# Altium integrated library Xilinx XC17S00A.IntLib: 38 symbols
Pins are listed as number, name and electrical type; pins without a type are passive.

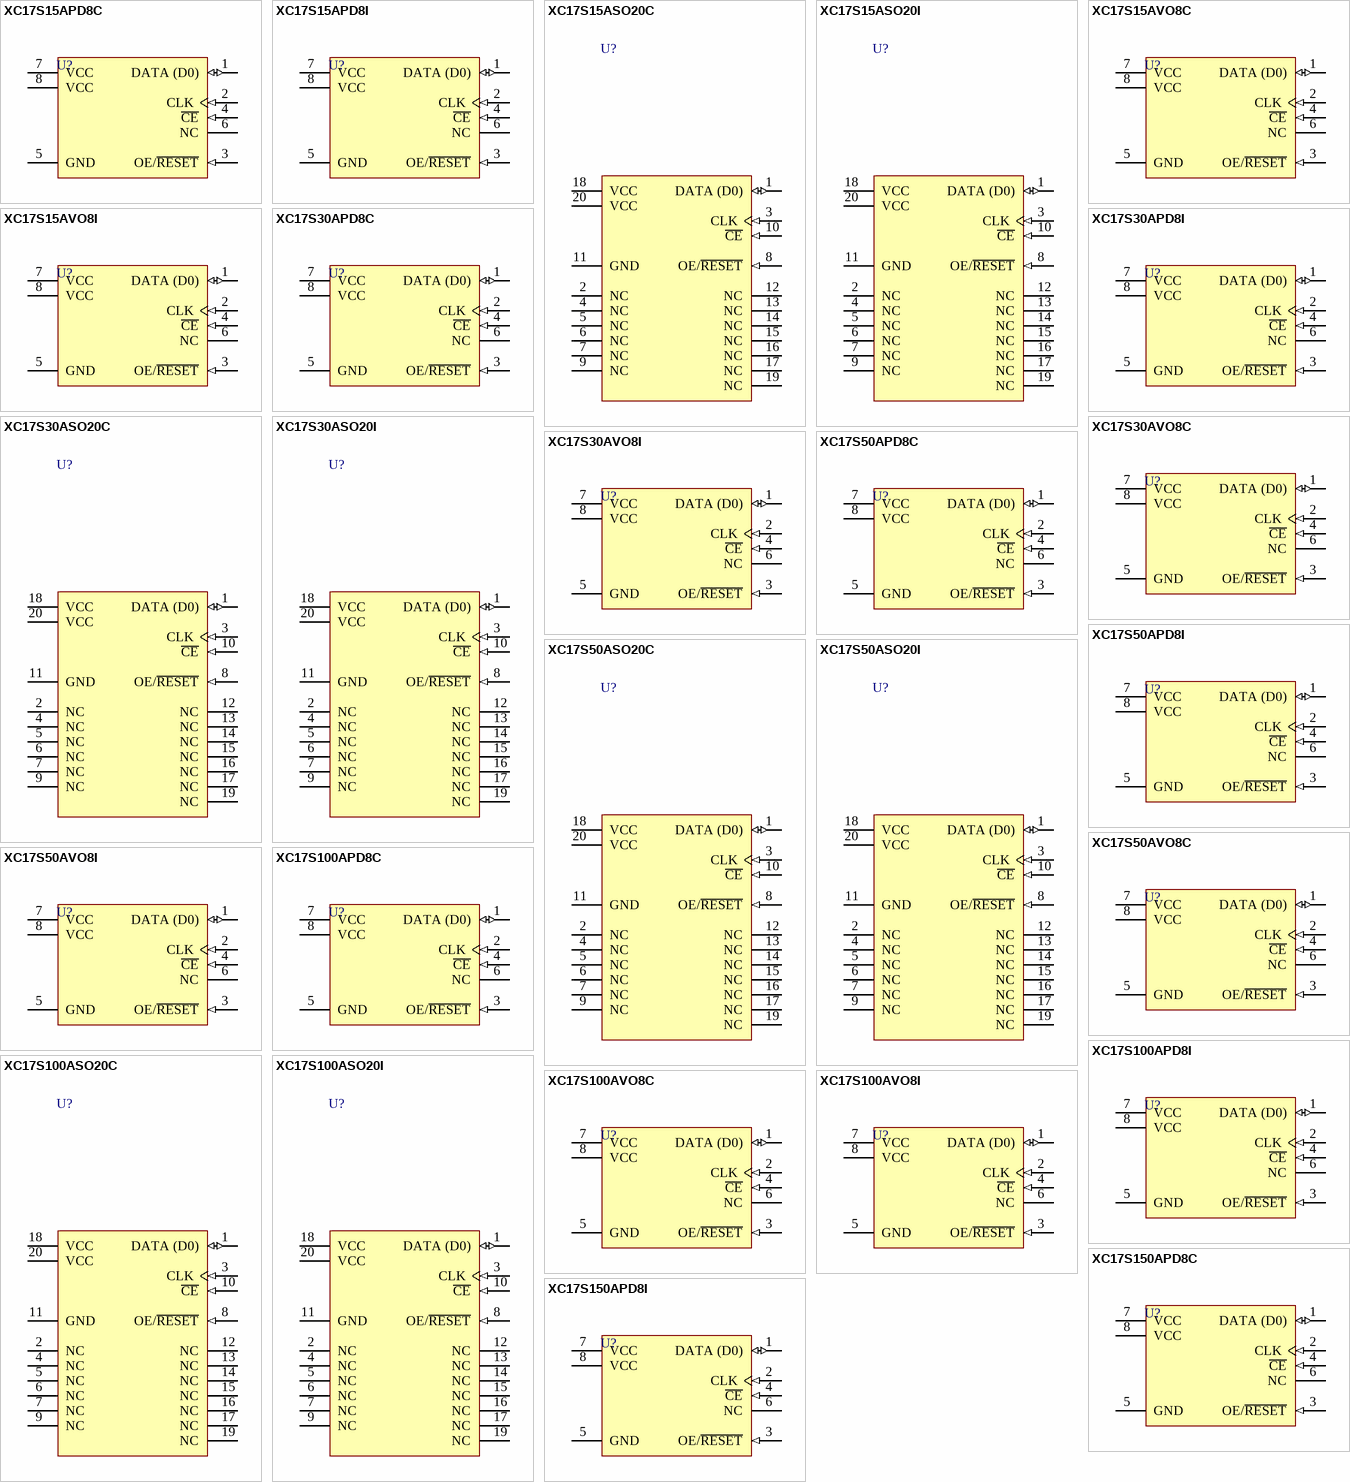
[diagram p0: symbols XC17S15APD8C to XC17S150APD8I]

## XC17S15APD8C
designator U?
XC17S00A Series, One-Time Programmable Configuration 3.3V PROM, 8-Pin PDIP, XC2S15 Compatible, Commercial Grade; PackageDocument: rev1.1, Apr-2001; Published: 17-Dec-2003; DatasheetDocument: ver1.8, Nov-2002; PackageReference: PD8; Publisher: Altium Limited; Code_JEDEC: MS-001-BA
footprint PD8 (8-Pin Plastic DIP (PD8))
pins: 1 DATA (D0) (io) "Data Output.", 2 CLK (in) "Clock input for internal address counter.", 3 OE/~{RESET} (in) "DATA Output Enable/Address Counter Reset", 4 ~{CE} (in) "Reset internal Address Counter, Disable DATA Output, Force device into Standby Mode.", 5 GND (power) "Ground.", 6 NC "No Connection.", 7 VCC (power) "Positive Supply.", 8 VCC (power) "Positive Supply."

## XC17S15APD8I
designator U?
XC17S00A Series, One-Time Programmable Configuration 3.3V PROM, 8-Pin PDIP, XC2S15 Compatible, Industrial Grade; PackageDocument: rev1.1, Apr-2001; Published: 17-Dec-2003; DatasheetDocument: ver1.8, Nov-2002; PackageReference: PD8; Publisher: Altium Limited; Code_JEDEC: MS-001-BA
footprint PD8 (8-Pin Plastic DIP (PD8))
pins: 1 DATA (D0) (io) "Data Output.", 2 CLK (in) "Clock input for internal address counter.", 3 OE/~{RESET} (in) "DATA Output Enable/Address Counter Reset", 4 ~{CE} (in) "Reset internal Address Counter, Disable DATA Output, Force device into Standby Mode.", 5 GND (power) "Ground.", 6 NC "No Connection.", 7 VCC (power) "Positive Supply.", 8 VCC (power) "Positive Supply."

## XC17S15ASO20C
designator U?
XC17S00A Series, One-Time Programmable Configuration 3.3V PROM, 20-Pin SOIC, XC2S15 Compatible, Commercial Grade; PackageDocument: ver1.0, Jun-2000; Published: 17-Dec-2003; DatasheetDocument: ver1.8, Nov-2002; PackageReference: SO20; Publisher: Altium Limited; Code_JEDEC: MS-013-AC
footprint SO20 (20-Pin Small-Outline Package (SO20))
pins: 1 DATA (D0) (io) "Data Output.", 2 NC "No Connection.", 3 CLK (in) "Clock input for internal address counter.", 4 NC "No Connection.", 5 NC "No Connection.", 6 NC "No Connection.", 7 NC "No Connection.", 8 OE/~{RESET} (in) "DATA Output Enable/Address Counter Reset", 9 NC "No Connection.", 10 ~{CE} (in) "Reset internal Address Counter, Disable DATA Output, Force device into Standby Mode.", 11 GND (power) "Ground.", 12 NC "No Connection.", 13 NC "No Connection.", 14 NC "No Connection.", 15 NC "No Connection.", 16 NC "No Connection.", 17 NC "No Connection.", 18 VCC (power) "Positive Supply.", 19 NC "No Connection.", 20 VCC (power) "Positive Supply."

## XC17S15ASO20I
designator U?
XC17S00A Series, One-Time Programmable Configuration 3.3V PROM, 20-Pin SOIC, XC2S15 Compatible, Industrial Grade; PackageDocument: ver1.0, Jun-2000; Published: 17-Dec-2003; DatasheetDocument: ver1.8, Nov-2002; PackageReference: SO20; Publisher: Altium Limited; Code_JEDEC: MS-013-AC
footprint SO20 (20-Pin Small-Outline Package (SO20))
pins: 1 DATA (D0) (io) "Data Output.", 2 NC "No Connection.", 3 CLK (in) "Clock input for internal address counter.", 4 NC "No Connection.", 5 NC "No Connection.", 6 NC "No Connection.", 7 NC "No Connection.", 8 OE/~{RESET} (in) "DATA Output Enable/Address Counter Reset", 9 NC "No Connection.", 10 ~{CE} (in) "Reset internal Address Counter, Disable DATA Output, Force device into Standby Mode.", 11 GND (power) "Ground.", 12 NC "No Connection.", 13 NC "No Connection.", 14 NC "No Connection.", 15 NC "No Connection.", 16 NC "No Connection.", 17 NC "No Connection.", 18 VCC (power) "Positive Supply.", 19 NC "No Connection.", 20 VCC (power) "Positive Supply."

## XC17S15AVO8C
designator U?
XC17S00A Series, One-Time Programmable Configuration 3.3V PROM, 8-Pin TSOP, XC2S15 Compatible, Commercial Grade; PackageDocument: ver1.1, Apr-2001; Published: 17-Dec-2003; DatasheetDocument: ver1.8, Nov-2002; PackageReference: VO8; Publisher: Altium Limited
footprint VO8 (8-Pin Thin Small-Outline Package (VO8))
pins: 1 DATA (D0) (io) "Data Output.", 2 CLK (in) "Clock input for internal address counter.", 3 OE/~{RESET} (in) "DATA Output Enable/Address Counter Reset", 4 ~{CE} (in) "Reset internal Address Counter, Disable DATA Output, Force device into Standby Mode.", 5 GND (power) "Ground.", 6 NC "No Connection.", 7 VCC (power) "Positive Supply.", 8 VCC (power) "Positive Supply."

## XC17S15AVO8I
designator U?
XC17S00A Series, One-Time Programmable Configuration 3.3V PROM, 8-Pin TSOP, XC2S15 Compatible, Industrial Grade; PackageDocument: ver1.1, Apr-2001; Published: 17-Dec-2003; DatasheetDocument: ver1.8, Nov-2002; PackageReference: VO8; Publisher: Altium Limited
footprint VO8 (8-Pin Thin Small-Outline Package (VO8))
pins: 1 DATA (D0) (io) "Data Output.", 2 CLK (in) "Clock input for internal address counter.", 3 OE/~{RESET} (in) "DATA Output Enable/Address Counter Reset", 4 ~{CE} (in) "Reset internal Address Counter, Disable DATA Output, Force device into Standby Mode.", 5 GND (power) "Ground.", 6 NC "No Connection.", 7 VCC (power) "Positive Supply.", 8 VCC (power) "Positive Supply."

## XC17S30APD8C
designator U?
XC17S00A Series, One-Time Programmable Configuration 3.3V PROM, 8-Pin PDIP, XC2S30 Compatible, Commercial Grade; PackageDocument: rev1.1, Apr-2001; Published: 17-Dec-2003; DatasheetDocument: ver1.8, Nov-2002; PackageReference: PD8; Publisher: Altium Limited; Code_JEDEC: MS-001-BA
footprint PD8 (8-Pin Plastic DIP (PD8))
pins: 1 DATA (D0) (io) "Data Output.", 2 CLK (in) "Clock input for internal address counter.", 3 OE/~{RESET} (in) "DATA Output Enable/Address Counter Reset", 4 ~{CE} (in) "Reset internal Address Counter, Disable DATA Output, Force device into Standby Mode.", 5 GND (power) "Ground.", 6 NC "No Connection.", 7 VCC (power) "Positive Supply.", 8 VCC (power) "Positive Supply."

## XC17S30APD8I
designator U?
XC17S00A Series, One-Time Programmable Configuration 3.3V PROM, 8-Pin PDIP, XC2S30 Compatible, Industrial Grade; PackageDocument: rev1.1, Apr-2001; Published: 17-Dec-2003; DatasheetDocument: ver1.8, Nov-2002; PackageReference: PD8; Publisher: Altium Limited; Code_JEDEC: MS-001-BA
footprint PD8 (8-Pin Plastic DIP (PD8))
pins: 1 DATA (D0) (io) "Data Output.", 2 CLK (in) "Clock input for internal address counter.", 3 OE/~{RESET} (in) "DATA Output Enable/Address Counter Reset", 4 ~{CE} (in) "Reset internal Address Counter, Disable DATA Output, Force device into Standby Mode.", 5 GND (power) "Ground.", 6 NC "No Connection.", 7 VCC (power) "Positive Supply.", 8 VCC (power) "Positive Supply."

## XC17S30ASO20C
designator U?
XC17S00A Series, One-Time Programmable Configuration 3.3V PROM, 20-Pin SOIC, XC2S30 Compatible, Commercial Grade; PackageDocument: ver1.0, Jun-2000; Published: 17-Dec-2003; DatasheetDocument: ver1.8, Nov-2002; PackageReference: SO20; Publisher: Altium Limited; Code_JEDEC: MS-013-AC
footprint SO20 (20-Pin Small-Outline Package (SO20))
pins: 1 DATA (D0) (io) "Data Output.", 2 NC "No Connection.", 3 CLK (in) "Clock input for internal address counter.", 4 NC "No Connection.", 5 NC "No Connection.", 6 NC "No Connection.", 7 NC "No Connection.", 8 OE/~{RESET} (in) "DATA Output Enable/Address Counter Reset", 9 NC "No Connection.", 10 ~{CE} (in) "Reset internal Address Counter, Disable DATA Output, Force device into Standby Mode.", 11 GND (power) "Ground.", 12 NC "No Connection.", 13 NC "No Connection.", 14 NC "No Connection.", 15 NC "No Connection.", 16 NC "No Connection.", 17 NC "No Connection.", 18 VCC (power) "Positive Supply.", 19 NC "No Connection.", 20 VCC (power) "Positive Supply."

## XC17S30ASO20I
designator U?
XC17S00A Series, One-Time Programmable Configuration 3.3V PROM, 20-Pin SOIC, XC2S30 Compatible, Industrial Grade; PackageDocument: ver1.0, Jun-2000; Published: 17-Dec-2003; DatasheetDocument: ver1.8, Nov-2002; PackageReference: SO20; Publisher: Altium Limited; Code_JEDEC: MS-013-AC
footprint SO20 (20-Pin Small-Outline Package (SO20))
pins: 1 DATA (D0) (io) "Data Output.", 2 NC "No Connection.", 3 CLK (in) "Clock input for internal address counter.", 4 NC "No Connection.", 5 NC "No Connection.", 6 NC "No Connection.", 7 NC "No Connection.", 8 OE/~{RESET} (in) "DATA Output Enable/Address Counter Reset", 9 NC "No Connection.", 10 ~{CE} (in) "Reset internal Address Counter, Disable DATA Output, Force device into Standby Mode.", 11 GND (power) "Ground.", 12 NC "No Connection.", 13 NC "No Connection.", 14 NC "No Connection.", 15 NC "No Connection.", 16 NC "No Connection.", 17 NC "No Connection.", 18 VCC (power) "Positive Supply.", 19 NC "No Connection.", 20 VCC (power) "Positive Supply."

## XC17S30AVO8C
designator U?
XC17S00A Series, One-Time Programmable Configuration 3.3V PROM, 8-Pin TSOP, XC2S30 Compatible, Commercial Grade; PackageDocument: ver1.1, Apr-2001; Published: 17-Dec-2003; DatasheetDocument: ver1.8, Nov-2002; PackageReference: VO8; Publisher: Altium Limited
footprint VO8 (8-Pin Thin Small-Outline Package (VO8))
pins: 1 DATA (D0) (io) "Data Output.", 2 CLK (in) "Clock input for internal address counter.", 3 OE/~{RESET} (in) "DATA Output Enable/Address Counter Reset", 4 ~{CE} (in) "Reset internal Address Counter, Disable DATA Output, Force device into Standby Mode.", 5 GND (power) "Ground.", 6 NC "No Connection.", 7 VCC (power) "Positive Supply.", 8 VCC (power) "Positive Supply."

## XC17S30AVO8I
designator U?
XC17S00A Series, One-Time Programmable Configuration 3.3V PROM, 8-Pin TSOP, XC2S30 Compatible, Industrial Grade; PackageDocument: ver1.1, Apr-2001; Published: 17-Dec-2003; DatasheetDocument: ver1.8, Nov-2002; PackageReference: VO8; Publisher: Altium Limited
footprint VO8 (8-Pin Thin Small-Outline Package (VO8))
pins: 1 DATA (D0) (io) "Data Output.", 2 CLK (in) "Clock input for internal address counter.", 3 OE/~{RESET} (in) "DATA Output Enable/Address Counter Reset", 4 ~{CE} (in) "Reset internal Address Counter, Disable DATA Output, Force device into Standby Mode.", 5 GND (power) "Ground.", 6 NC "No Connection.", 7 VCC (power) "Positive Supply.", 8 VCC (power) "Positive Supply."

## XC17S50APD8C
designator U?
XC17S00A Series, One-Time Programmable Configuration 3.3V PROM, 8-Pin PDIP, XC2S50/XC2S50E Compatible, Commercial Grade; PackageDocument: rev1.1, Apr-2001; Published: 17-Dec-2003; DatasheetDocument: ver1.8, Nov-2002; PackageReference: PD8; Publisher: Altium Limited; Code_JEDEC: MS-001-BA
footprint PD8 (8-Pin Plastic DIP (PD8))
pins: 1 DATA (D0) (io) "Data Output.", 2 CLK (in) "Clock input for internal address counter.", 3 OE/~{RESET} (in) "DATA Output Enable/Address Counter Reset", 4 ~{CE} (in) "Reset internal Address Counter, Disable DATA Output, Force device into Standby Mode.", 5 GND (power) "Ground.", 6 NC "No Connection.", 7 VCC (power) "Positive Supply.", 8 VCC (power) "Positive Supply."

## XC17S50APD8I
designator U?
XC17S00A Series, One-Time Programmable Configuration 3.3V PROM, 8-Pin PDIP, XC2S50/XC2S50E Compatible, Industrial Grade; PackageDocument: rev1.1, Apr-2001; Published: 17-Dec-2003; DatasheetDocument: ver1.8, Nov-2002; PackageReference: PD8; Publisher: Altium Limited; Code_JEDEC: MS-001-BA
footprint PD8 (8-Pin Plastic DIP (PD8))
pins: 1 DATA (D0) (io) "Data Output.", 2 CLK (in) "Clock input for internal address counter.", 3 OE/~{RESET} (in) "DATA Output Enable/Address Counter Reset", 4 ~{CE} (in) "Reset internal Address Counter, Disable DATA Output, Force device into Standby Mode.", 5 GND (power) "Ground.", 6 NC "No Connection.", 7 VCC (power) "Positive Supply.", 8 VCC (power) "Positive Supply."

## XC17S50ASO20C
designator U?
XC17S00A Series, One-Time Programmable Configuration 3.3V PROM, 20-Pin SOIC, XC2S50/XC2S50E Compatible, Commercial Grade; PackageDocument: ver1.0, Jun-2000; Published: 17-Dec-2003; DatasheetDocument: ver1.8, Nov-2002; PackageReference: SO20; Publisher: Altium Limited; Code_JEDEC: MS-013-AC
footprint SO20 (20-Pin Small-Outline Package (SO20))
pins: 1 DATA (D0) (io) "Data Output.", 2 NC "No Connection.", 3 CLK (in) "Clock input for internal address counter.", 4 NC "No Connection.", 5 NC "No Connection.", 6 NC "No Connection.", 7 NC "No Connection.", 8 OE/~{RESET} (in) "DATA Output Enable/Address Counter Reset", 9 NC "No Connection.", 10 ~{CE} (in) "Reset internal Address Counter, Disable DATA Output, Force device into Standby Mode.", 11 GND (power) "Ground.", 12 NC "No Connection.", 13 NC "No Connection.", 14 NC "No Connection.", 15 NC "No Connection.", 16 NC "No Connection.", 17 NC "No Connection.", 18 VCC (power) "Positive Supply.", 19 NC "No Connection.", 20 VCC (power) "Positive Supply."

## XC17S50ASO20I
designator U?
XC17S00A Series, One-Time Programmable Configuration 3.3V PROM, 20-Pin SOIC, XC2S50/XC2S50E Compatible, Industrial Grade; PackageDocument: ver1.0, Jun-2000; Published: 17-Dec-2003; DatasheetDocument: ver1.8, Nov-2002; PackageReference: SO20; Publisher: Altium Limited; Code_JEDEC: MS-013-AC
footprint SO20 (20-Pin Small-Outline Package (SO20))
pins: 1 DATA (D0) (io) "Data Output.", 2 NC "No Connection.", 3 CLK (in) "Clock input for internal address counter.", 4 NC "No Connection.", 5 NC "No Connection.", 6 NC "No Connection.", 7 NC "No Connection.", 8 OE/~{RESET} (in) "DATA Output Enable/Address Counter Reset", 9 NC "No Connection.", 10 ~{CE} (in) "Reset internal Address Counter, Disable DATA Output, Force device into Standby Mode.", 11 GND (power) "Ground.", 12 NC "No Connection.", 13 NC "No Connection.", 14 NC "No Connection.", 15 NC "No Connection.", 16 NC "No Connection.", 17 NC "No Connection.", 18 VCC (power) "Positive Supply.", 19 NC "No Connection.", 20 VCC (power) "Positive Supply."

## XC17S50AVO8C
designator U?
XC17S00A Series, One-Time Programmable Configuration 3.3V PROM, 8-Pin TSOP, XC2S50/XC2S50E Compatible, Commercial Grade; PackageDocument: ver1.1, Apr-2001; Published: 17-Dec-2003; DatasheetDocument: ver1.8, Nov-2002; PackageReference: VO8; Publisher: Altium Limited
footprint VO8 (8-Pin Thin Small-Outline Package (VO8))
pins: 1 DATA (D0) (io) "Data Output.", 2 CLK (in) "Clock input for internal address counter.", 3 OE/~{RESET} (in) "DATA Output Enable/Address Counter Reset", 4 ~{CE} (in) "Reset internal Address Counter, Disable DATA Output, Force device into Standby Mode.", 5 GND (power) "Ground.", 6 NC "No Connection.", 7 VCC (power) "Positive Supply.", 8 VCC (power) "Positive Supply."

## XC17S50AVO8I
designator U?
XC17S00A Series, One-Time Programmable Configuration 3.3V PROM, 8-Pin TSOP, XC2S50/XC2S50E Compatible, Industrial Grade; PackageDocument: ver1.1, Apr-2001; Published: 17-Dec-2003; DatasheetDocument: ver1.8, Nov-2002; PackageReference: VO8; Publisher: Altium Limited
footprint VO8 (8-Pin Thin Small-Outline Package (VO8))
pins: 1 DATA (D0) (io) "Data Output.", 2 CLK (in) "Clock input for internal address counter.", 3 OE/~{RESET} (in) "DATA Output Enable/Address Counter Reset", 4 ~{CE} (in) "Reset internal Address Counter, Disable DATA Output, Force device into Standby Mode.", 5 GND (power) "Ground.", 6 NC "No Connection.", 7 VCC (power) "Positive Supply.", 8 VCC (power) "Positive Supply."

## XC17S100APD8C
designator U?
XC17S00A Series, One-Time Programmable Configuration 3.3V PROM, 8-Pin PDIP, XC2S100/XC2S100E Compatible, Commercial Grade; PackageDocument: rev1.1, Apr-2001; Published: 17-Dec-2003; DatasheetDocument: ver1.8, Nov-2002; PackageReference: PD8; Publisher: Altium Limited; Code_JEDEC: MS-001-BA
footprint PD8 (8-Pin Plastic DIP (PD8))
pins: 1 DATA (D0) (io) "Data Output.", 2 CLK (in) "Clock input for internal address counter.", 3 OE/~{RESET} (in) "DATA Output Enable/Address Counter Reset", 4 ~{CE} (in) "Reset internal Address Counter, Disable DATA Output, Force device into Standby Mode.", 5 GND (power) "Ground.", 6 NC "No Connection.", 7 VCC (power) "Positive Supply.", 8 VCC (power) "Positive Supply."

## XC17S100APD8I
designator U?
XC17S00A Series, One-Time Programmable Configuration 3.3V PROM, 8-Pin PDIP, XC2S100/XC2S100E Compatible, Industrial Grade; PackageDocument: rev1.1, Apr-2001; Published: 17-Dec-2003; DatasheetDocument: ver1.8, Nov-2002; PackageReference: PD8; Publisher: Altium Limited; Code_JEDEC: MS-001-BA
footprint PD8 (8-Pin Plastic DIP (PD8))
pins: 1 DATA (D0) (io) "Data Output.", 2 CLK (in) "Clock input for internal address counter.", 3 OE/~{RESET} (in) "DATA Output Enable/Address Counter Reset", 4 ~{CE} (in) "Reset internal Address Counter, Disable DATA Output, Force device into Standby Mode.", 5 GND (power) "Ground.", 6 NC "No Connection.", 7 VCC (power) "Positive Supply.", 8 VCC (power) "Positive Supply."

## XC17S100ASO20C
designator U?
XC17S00A Series, One-Time Programmable Configuration 3.3V PROM, 20-Pin SOIC, XC2S100/XC2S100E Compatible, Commercial Grade; PackageDocument: ver1.0, Jun-2000; Published: 17-Dec-2003; DatasheetDocument: ver1.8, Nov-2002; PackageReference: SO20; Publisher: Altium Limited; Code_JEDEC: MS-013-AC
footprint SO20 (20-Pin Small-Outline Package (SO20))
pins: 1 DATA (D0) (io) "Data Output.", 2 NC "No Connection.", 3 CLK (in) "Clock input for internal address counter.", 4 NC "No Connection.", 5 NC "No Connection.", 6 NC "No Connection.", 7 NC "No Connection.", 8 OE/~{RESET} (in) "DATA Output Enable/Address Counter Reset", 9 NC "No Connection.", 10 ~{CE} (in) "Reset internal Address Counter, Disable DATA Output, Force device into Standby Mode.", 11 GND (power) "Ground.", 12 NC "No Connection.", 13 NC "No Connection.", 14 NC "No Connection.", 15 NC "No Connection.", 16 NC "No Connection.", 17 NC "No Connection.", 18 VCC (power) "Positive Supply.", 19 NC "No Connection.", 20 VCC (power) "Positive Supply."

## XC17S100ASO20I
designator U?
XC17S00A Series, One-Time Programmable Configuration 3.3V PROM, 20-Pin SOIC, XC2S100/XC2S100E Compatible, Industrial Grade; PackageDocument: ver1.0, Jun-2000; Published: 17-Dec-2003; DatasheetDocument: ver1.8, Nov-2002; PackageReference: SO20; Publisher: Altium Limited; Code_JEDEC: MS-013-AC
footprint SO20 (20-Pin Small-Outline Package (SO20))
pins: 1 DATA (D0) (io) "Data Output.", 2 NC "No Connection.", 3 CLK (in) "Clock input for internal address counter.", 4 NC "No Connection.", 5 NC "No Connection.", 6 NC "No Connection.", 7 NC "No Connection.", 8 OE/~{RESET} (in) "DATA Output Enable/Address Counter Reset", 9 NC "No Connection.", 10 ~{CE} (in) "Reset internal Address Counter, Disable DATA Output, Force device into Standby Mode.", 11 GND (power) "Ground.", 12 NC "No Connection.", 13 NC "No Connection.", 14 NC "No Connection.", 15 NC "No Connection.", 16 NC "No Connection.", 17 NC "No Connection.", 18 VCC (power) "Positive Supply.", 19 NC "No Connection.", 20 VCC (power) "Positive Supply."

## XC17S100AVO8C
designator U?
XC17S00A Series, One-Time Programmable Configuration 3.3V PROM, 8-Pin TSOP, XC2S100/XC2S100E Compatible, Commercial Grade; PackageDocument: ver1.1, Apr-2001; Published: 17-Dec-2003; DatasheetDocument: ver1.8, Nov-2002; PackageReference: VO8; Publisher: Altium Limited
footprint VO8 (8-Pin Thin Small-Outline Package (VO8))
pins: 1 DATA (D0) (io) "Data Output.", 2 CLK (in) "Clock input for internal address counter.", 3 OE/~{RESET} (in) "DATA Output Enable/Address Counter Reset", 4 ~{CE} (in) "Reset internal Address Counter, Disable DATA Output, Force device into Standby Mode.", 5 GND (power) "Ground.", 6 NC "No Connection.", 7 VCC (power) "Positive Supply.", 8 VCC (power) "Positive Supply."

## XC17S100AVO8I
designator U?
XC17S00A Series, One-Time Programmable Configuration 3.3V PROM, 8-Pin TSOP, XC2S100/XC2S100E Compatible, Industrial Grade; PackageDocument: ver1.1, Apr-2001; Published: 17-Dec-2003; DatasheetDocument: ver1.8, Nov-2002; PackageReference: VO8; Publisher: Altium Limited
footprint VO8 (8-Pin Thin Small-Outline Package (VO8))
pins: 1 DATA (D0) (io) "Data Output.", 2 CLK (in) "Clock input for internal address counter.", 3 OE/~{RESET} (in) "DATA Output Enable/Address Counter Reset", 4 ~{CE} (in) "Reset internal Address Counter, Disable DATA Output, Force device into Standby Mode.", 5 GND (power) "Ground.", 6 NC "No Connection.", 7 VCC (power) "Positive Supply.", 8 VCC (power) "Positive Supply."

## XC17S150APD8C
designator U?
XC17S00A Series, One-Time Programmable Configuration 3.3V PROM, 8-Pin PDIP, XC2S150 Compatible, Commercial Grade; PackageDocument: rev1.1, Apr-2001; Published: 17-Dec-2003; DatasheetDocument: ver1.8, Nov-2002; PackageReference: PD8; Publisher: Altium Limited; Code_JEDEC: MS-001-BA
footprint PD8 (8-Pin Plastic DIP (PD8))
pins: 1 DATA (D0) (io) "Data Output.", 2 CLK (in) "Clock input for internal address counter.", 3 OE/~{RESET} (in) "DATA Output Enable/Address Counter Reset", 4 ~{CE} (in) "Reset internal Address Counter, Disable DATA Output, Force device into Standby Mode.", 5 GND (power) "Ground.", 6 NC "No Connection.", 7 VCC (power) "Positive Supply.", 8 VCC (power) "Positive Supply."

## XC17S150APD8I
designator U?
XC17S00A Series, One-Time Programmable Configuration 3.3V PROM, 8-Pin PDIP, XC2S150 Compatible, Industrial Grade; PackageDocument: rev1.1, Apr-2001; Published: 17-Dec-2003; DatasheetDocument: ver1.8, Nov-2002; PackageReference: PD8; Publisher: Altium Limited; Code_JEDEC: MS-001-BA
footprint PD8 (8-Pin Plastic DIP (PD8))
pins: 1 DATA (D0) (io) "Data Output.", 2 CLK (in) "Clock input for internal address counter.", 3 OE/~{RESET} (in) "DATA Output Enable/Address Counter Reset", 4 ~{CE} (in) "Reset internal Address Counter, Disable DATA Output, Force device into Standby Mode.", 5 GND (power) "Ground.", 6 NC "No Connection.", 7 VCC (power) "Positive Supply.", 8 VCC (power) "Positive Supply."

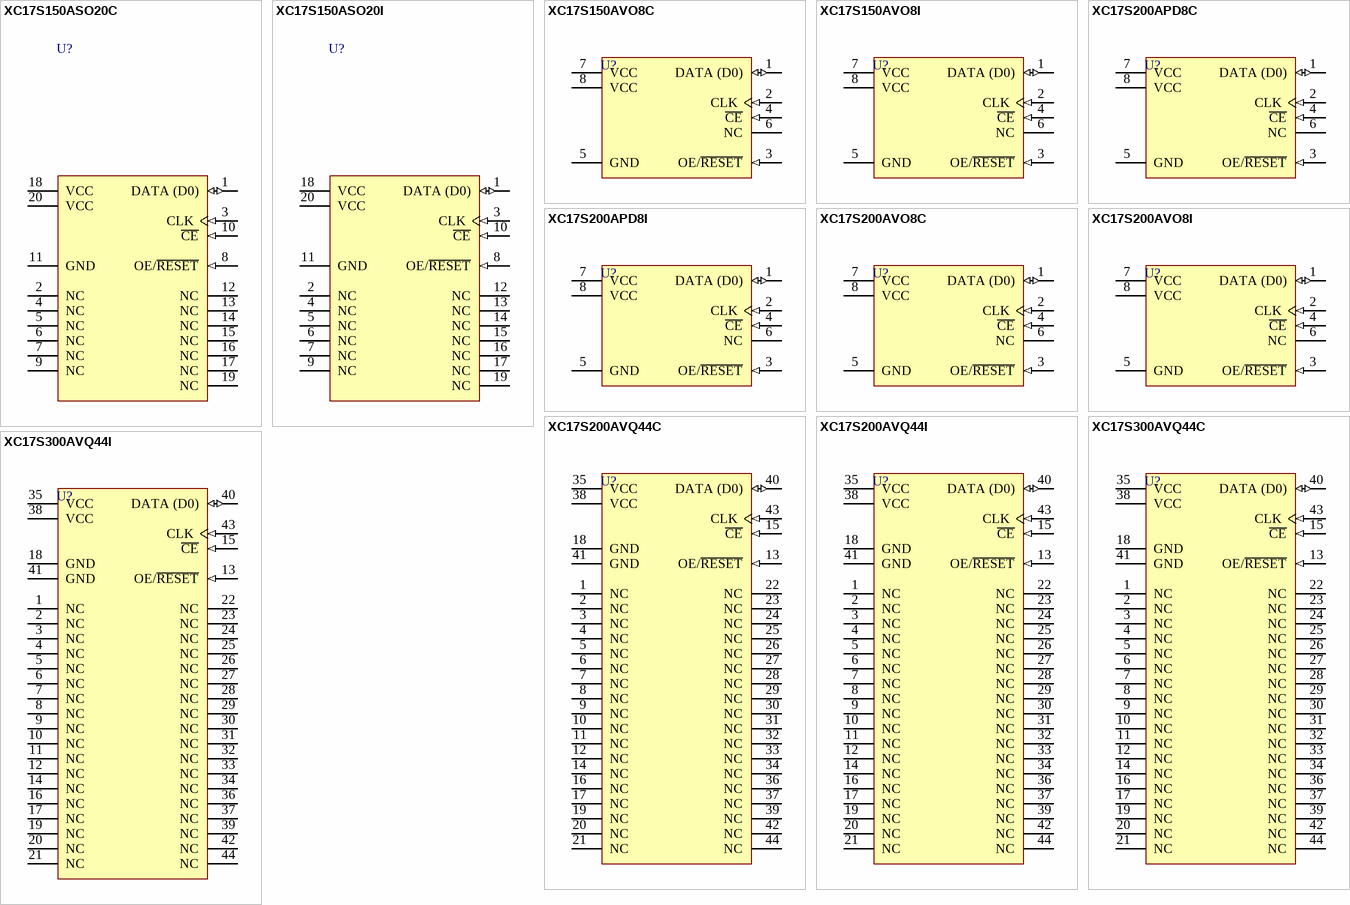
[diagram p1: symbols XC17S150ASO20C to XC17S300AVQ44I]

## XC17S150ASO20C
designator U?
XC17S00A Series, One-Time Programmable Configuration 3.3V PROM, 20-Pin SOIC, XC2S150 Compatible, Commercial Grade; PackageDocument: ver1.0, Jun-2000; Published: 17-Dec-2003; DatasheetDocument: ver1.8, Nov-2002; PackageReference: SO20; Publisher: Altium Limited; Code_JEDEC: MS-013-AC
footprint SO20 (20-Pin Small-Outline Package (SO20))
pins: 1 DATA (D0) (io) "Data Output.", 2 NC "No Connection.", 3 CLK (in) "Clock input for internal address counter.", 4 NC "No Connection.", 5 NC "No Connection.", 6 NC "No Connection.", 7 NC "No Connection.", 8 OE/~{RESET} (in) "DATA Output Enable/Address Counter Reset", 9 NC "No Connection.", 10 ~{CE} (in) "Reset internal Address Counter, Disable DATA Output, Force device into Standby Mode.", 11 GND (power) "Ground.", 12 NC "No Connection.", 13 NC "No Connection.", 14 NC "No Connection.", 15 NC "No Connection.", 16 NC "No Connection.", 17 NC "No Connection.", 18 VCC (power) "Positive Supply.", 19 NC "No Connection.", 20 VCC (power) "Positive Supply."

## XC17S150ASO20I
designator U?
XC17S00A Series, One-Time Programmable Configuration 3.3V PROM, 20-Pin SOIC, XC2S150 Compatible, Industrial Grade; PackageDocument: ver1.0, Jun-2000; Published: 17-Dec-2003; DatasheetDocument: ver1.8, Nov-2002; PackageReference: SO20; Publisher: Altium Limited; Code_JEDEC: MS-013-AC
footprint SO20 (20-Pin Small-Outline Package (SO20))
pins: 1 DATA (D0) (io) "Data Output.", 2 NC "No Connection.", 3 CLK (in) "Clock input for internal address counter.", 4 NC "No Connection.", 5 NC "No Connection.", 6 NC "No Connection.", 7 NC "No Connection.", 8 OE/~{RESET} (in) "DATA Output Enable/Address Counter Reset", 9 NC "No Connection.", 10 ~{CE} (in) "Reset internal Address Counter, Disable DATA Output, Force device into Standby Mode.", 11 GND (power) "Ground.", 12 NC "No Connection.", 13 NC "No Connection.", 14 NC "No Connection.", 15 NC "No Connection.", 16 NC "No Connection.", 17 NC "No Connection.", 18 VCC (power) "Positive Supply.", 19 NC "No Connection.", 20 VCC (power) "Positive Supply."

## XC17S150AVO8C
designator U?
XC17S00A Series, One-Time Programmable Configuration 3.3V PROM, 8-Pin TSOP, XC2S150 Compatible, Commercial Grade; PackageDocument: ver1.1, Apr-2001; Published: 17-Dec-2003; DatasheetDocument: ver1.8, Nov-2002; PackageReference: VO8; Publisher: Altium Limited
footprint VO8 (8-Pin Thin Small-Outline Package (VO8))
pins: 1 DATA (D0) (io) "Data Output.", 2 CLK (in) "Clock input for internal address counter.", 3 OE/~{RESET} (in) "DATA Output Enable/Address Counter Reset", 4 ~{CE} (in) "Reset internal Address Counter, Disable DATA Output, Force device into Standby Mode.", 5 GND (power) "Ground.", 6 NC "No Connection.", 7 VCC (power) "Positive Supply.", 8 VCC (power) "Positive Supply."

## XC17S150AVO8I
designator U?
XC17S00A Series, One-Time Programmable Configuration 3.3V PROM, 8-Pin TSOP, XC2S150 Compatible, Industrial Grade; PackageDocument: ver1.1, Apr-2001; Published: 17-Dec-2003; DatasheetDocument: ver1.8, Nov-2002; PackageReference: VO8; Publisher: Altium Limited
footprint VO8 (8-Pin Thin Small-Outline Package (VO8))
pins: 1 DATA (D0) (io) "Data Output.", 2 CLK (in) "Clock input for internal address counter.", 3 OE/~{RESET} (in) "DATA Output Enable/Address Counter Reset", 4 ~{CE} (in) "Reset internal Address Counter, Disable DATA Output, Force device into Standby Mode.", 5 GND (power) "Ground.", 6 NC "No Connection.", 7 VCC (power) "Positive Supply.", 8 VCC (power) "Positive Supply."

## XC17S200APD8C
designator U?
XC17S00A Series, One-Time Programmable Configuration 3.3V PROM, 8-Pin PDIP, XC2S200/XC2S150E/XC2S200E Compatible, Commercial Grade; PackageDocument: rev1.1, Apr-2001; Published: 17-Dec-2003; DatasheetDocument: ver1.8, Nov-2002; PackageReference: PD8; Publisher: Altium Limited; Code_JEDEC: MS-001-BA
footprint PD8 (8-Pin Plastic DIP (PD8))
pins: 1 DATA (D0) (io) "Data Output.", 2 CLK (in) "Clock input for internal address counter.", 3 OE/~{RESET} (in) "DATA Output Enable/Address Counter Reset", 4 ~{CE} (in) "Reset internal Address Counter, Disable DATA Output, Force device into Standby Mode.", 5 GND (power) "Ground.", 6 NC "No Connection.", 7 VCC (power) "Positive Supply.", 8 VCC (power) "Positive Supply."

## XC17S200APD8I
designator U?
XC17S00A Series, One-Time Programmable Configuration 3.3V PROM, 8-Pin PDIP, XC2S200/XC2S150E/XC2S200E Compatible, Industrial Grade; PackageDocument: rev1.1, Apr-2001; Published: 17-Dec-2003; DatasheetDocument: ver1.8, Nov-2002; PackageReference: PD8; Publisher: Altium Limited; Code_JEDEC: MS-001-BA
footprint PD8 (8-Pin Plastic DIP (PD8))
pins: 1 DATA (D0) (io) "Data Output.", 2 CLK (in) "Clock input for internal address counter.", 3 OE/~{RESET} (in) "DATA Output Enable/Address Counter Reset", 4 ~{CE} (in) "Reset internal Address Counter, Disable DATA Output, Force device into Standby Mode.", 5 GND (power) "Ground.", 6 NC "No Connection.", 7 VCC (power) "Positive Supply.", 8 VCC (power) "Positive Supply."

## XC17S200AVO8C
designator U?
XC17S00A Series, One-Time Programmable Configuration 3.3V PROM, 8-Pin TSOP, XC2S200/XC2S150E/XC2S200E Compatible, Commercial Grade; PackageDocument: ver1.1, Apr-2001; Published: 17-Dec-2003; DatasheetDocument: ver1.8, Nov-2002; PackageReference: VO8; Publisher: Altium Limited
footprint VO8 (8-Pin Thin Small-Outline Package (VO8))
pins: 1 DATA (D0) (io) "Data Output.", 2 CLK (in) "Clock input for internal address counter.", 3 OE/~{RESET} (in) "DATA Output Enable/Address Counter Reset", 4 ~{CE} (in) "Reset internal Address Counter, Disable DATA Output, Force device into Standby Mode.", 5 GND (power) "Ground.", 6 NC "No Connection.", 7 VCC (power) "Positive Supply.", 8 VCC (power) "Positive Supply."

## XC17S200AVO8I
designator U?
XC17S00A Series, One-Time Programmable Configuration 3.3V PROM, 8-Pin TSOP, XC2S200/XC2S150E/XC2S200E Compatible, Industrial Grade; PackageDocument: ver1.1, Apr-2001; Published: 17-Dec-2003; DatasheetDocument: ver1.8, Nov-2002; PackageReference: VO8; Publisher: Altium Limited
footprint VO8 (8-Pin Thin Small-Outline Package (VO8))
pins: 1 DATA (D0) (io) "Data Output.", 2 CLK (in) "Clock input for internal address counter.", 3 OE/~{RESET} (in) "DATA Output Enable/Address Counter Reset", 4 ~{CE} (in) "Reset internal Address Counter, Disable DATA Output, Force device into Standby Mode.", 5 GND (power) "Ground.", 6 NC "No Connection.", 7 VCC (power) "Positive Supply.", 8 VCC (power) "Positive Supply."

## XC17S200AVQ44C
designator U?
XC17S00A Series, One-Time Programmable Configuration 3.3V PROM, 44-Pin VQFP, XC2S200/XC2S150E/XC2S200E Compatible, Commercial Grade; PackageDocument: ver1.1, Oct-2002; Published: 17-Dec-2003; DatasheetDocument: ver1.8, Nov-2002; PackageReference: VQ44; Publisher: Altium Limited; Code_JEDEC: MS-026-ACB
footprint VQ44 (44-Pin Very Thin Quad Flat Pack (VQ44))
3D model XC17S200A-VQ44 (44-Pin Very Thin Quad Flat Pack (VQ44))
pins: 1 NC "No Connection.", 2 NC "No Connection.", 3 NC "No Connection.", 4 NC "No Connection.", 5 NC "No Connection.", 6 NC "No Connection.", 7 NC "No Connection.", 8 NC "No Connection.", 9 NC "No Connection.", 10 NC "No Connection.", 11 NC "No Connection.", 12 NC "No Connection.", 13 OE/~{RESET} (in) "DATA Output Enable/Address Counter Reset", 14 NC "No Connection.", 15 ~{CE} (in) "Reset internal Address Counter, Disable DATA Output, Force device into Standby Mode.", 16 NC "No Connection.", 17 NC "No Connection.", 18 GND (power) "Ground.", 19 NC "No Connection.", 20 NC "No Connection.", 21 NC "No Connection.", 22 NC "No Connection.", 23 NC "No Connection.", 24 NC "No Connection.", 25 NC "No Connection.", 26 NC "No Connection.", 27 NC "No Connection.", 28 NC "No Connection.", 29 NC "No Connection.", 30 NC "No Connection.", 31 NC "No Connection.", 32 NC "No Connection.", 33 NC "No Connection.", 34 NC "No Connection.", 35 VCC (power) "Positive Supply.", 36 NC "No Connection.", 37 NC "No Connection.", 38 VCC (power) "Positive Supply.", 39 NC "No Connection.", 40 DATA (D0) (io) "Data Output.", 41 GND (power) "Ground.", 42 NC "No Connection.", 43 CLK (in) "Clock input for internal address counter.", 44 NC "No Connection."

## XC17S200AVQ44I
designator U?
XC17S00A Series, One-Time Programmable Configuration 3.3V PROM, 44-Pin VQFP, XC2S200/XC2S150E/XC2S200E Compatible, Industrial Grade; PackageDocument: ver1.1, Oct-2002; Published: 17-Dec-2003; DatasheetDocument: ver1.8, Nov-2002; PackageReference: VQ44; Publisher: Altium Limited; Code_JEDEC: MS-026-ACB
footprint VQ44 (44-Pin Very Thin Quad Flat Pack (VQ44))
3D model XC17S200A-VQ44 (44-Pin Very Thin Quad Flat Pack (VQ44))
pins: 1 NC "No Connection.", 2 NC "No Connection.", 3 NC "No Connection.", 4 NC "No Connection.", 5 NC "No Connection.", 6 NC "No Connection.", 7 NC "No Connection.", 8 NC "No Connection.", 9 NC "No Connection.", 10 NC "No Connection.", 11 NC "No Connection.", 12 NC "No Connection.", 13 OE/~{RESET} (in) "DATA Output Enable/Address Counter Reset", 14 NC "No Connection.", 15 ~{CE} (in) "Reset internal Address Counter, Disable DATA Output, Force device into Standby Mode.", 16 NC "No Connection.", 17 NC "No Connection.", 18 GND (power) "Ground.", 19 NC "No Connection.", 20 NC "No Connection.", 21 NC "No Connection.", 22 NC "No Connection.", 23 NC "No Connection.", 24 NC "No Connection.", 25 NC "No Connection.", 26 NC "No Connection.", 27 NC "No Connection.", 28 NC "No Connection.", 29 NC "No Connection.", 30 NC "No Connection.", 31 NC "No Connection.", 32 NC "No Connection.", 33 NC "No Connection.", 34 NC "No Connection.", 35 VCC (power) "Positive Supply.", 36 NC "No Connection.", 37 NC "No Connection.", 38 VCC (power) "Positive Supply.", 39 NC "No Connection.", 40 DATA (D0) (io) "Data Output.", 41 GND (power) "Ground.", 42 NC "No Connection.", 43 CLK (in) "Clock input for internal address counter.", 44 NC "No Connection."

## XC17S300AVQ44C
designator U?
XC17S00A Series, One-Time Programmable Configuration 3.3V PROM, 44-Pin VQFP, XC2S300E Compatible, Commercial Grade; PackageDocument: ver1.1, Oct-2002; Published: 17-Dec-2003; DatasheetDocument: ver1.8, Nov-2002; PackageReference: VQ44; Publisher: Altium Limited; Code_JEDEC: MS-026-ACB
footprint VQ44 (44-Pin Very Thin Quad Flat Pack (VQ44))
3D model XC17S300A-VQ44 (44-Pin Very Thin Quad Flat Pack (VQ44))
pins: 1 NC "No Connection.", 2 NC "No Connection.", 3 NC "No Connection.", 4 NC "No Connection.", 5 NC "No Connection.", 6 NC "No Connection.", 7 NC "No Connection.", 8 NC "No Connection.", 9 NC "No Connection.", 10 NC "No Connection.", 11 NC "No Connection.", 12 NC "No Connection.", 13 OE/~{RESET} (in) "DATA Output Enable/Address Counter Reset", 14 NC "No Connection.", 15 ~{CE} (in) "Reset internal Address Counter, Disable DATA Output, Force device into Standby Mode.", 16 NC "No Connection.", 17 NC "No Connection.", 18 GND (power) "Ground.", 19 NC "No Connection.", 20 NC "No Connection.", 21 NC "No Connection.", 22 NC "No Connection.", 23 NC "No Connection.", 24 NC "No Connection.", 25 NC "No Connection.", 26 NC "No Connection.", 27 NC "No Connection.", 28 NC "No Connection.", 29 NC "No Connection.", 30 NC "No Connection.", 31 NC "No Connection.", 32 NC "No Connection.", 33 NC "No Connection.", 34 NC "No Connection.", 35 VCC (power) "Positive Supply.", 36 NC "No Connection.", 37 NC "No Connection.", 38 VCC (power) "Positive Supply.", 39 NC "No Connection.", 40 DATA (D0) (io) "Data Output.", 41 GND (power) "Ground.", 42 NC "No Connection.", 43 CLK (in) "Clock input for internal address counter.", 44 NC "No Connection."

## XC17S300AVQ44I
designator U?
XC17S00A Series, One-Time Programmable Configuration 3.3V PROM, 44-Pin VQFP, XC2S300E Compatible, Industrial Grade; PackageDocument: ver1.1, Oct-2002; Published: 17-Dec-2003; DatasheetDocument: ver1.8, Nov-2002; PackageReference: VQ44; Publisher: Altium Limited; Code_JEDEC: MS-026-ACB
footprint VQ44 (44-Pin Very Thin Quad Flat Pack (VQ44))
3D model XC17S300A-VQ44 (44-Pin Very Thin Quad Flat Pack (VQ44))
pins: 1 NC "No Connection.", 2 NC "No Connection.", 3 NC "No Connection.", 4 NC "No Connection.", 5 NC "No Connection.", 6 NC "No Connection.", 7 NC "No Connection.", 8 NC "No Connection.", 9 NC "No Connection.", 10 NC "No Connection.", 11 NC "No Connection.", 12 NC "No Connection.", 13 OE/~{RESET} (in) "DATA Output Enable/Address Counter Reset", 14 NC "No Connection.", 15 ~{CE} (in) "Reset internal Address Counter, Disable DATA Output, Force device into Standby Mode.", 16 NC "No Connection.", 17 NC "No Connection.", 18 GND (power) "Ground.", 19 NC "No Connection.", 20 NC "No Connection.", 21 NC "No Connection.", 22 NC "No Connection.", 23 NC "No Connection.", 24 NC "No Connection.", 25 NC "No Connection.", 26 NC "No Connection.", 27 NC "No Connection.", 28 NC "No Connection.", 29 NC "No Connection.", 30 NC "No Connection.", 31 NC "No Connection.", 32 NC "No Connection.", 33 NC "No Connection.", 34 NC "No Connection.", 35 VCC (power) "Positive Supply.", 36 NC "No Connection.", 37 NC "No Connection.", 38 VCC (power) "Positive Supply.", 39 NC "No Connection.", 40 DATA (D0) (io) "Data Output.", 41 GND (power) "Ground.", 42 NC "No Connection.", 43 CLK (in) "Clock input for internal address counter.", 44 NC "No Connection."